# EAGLE library part MICROBUILDER_ATWINC1500_MR210PA (library Adafruit WINC1500 Breakout)
ATWINC1500_MR210PA wifi module
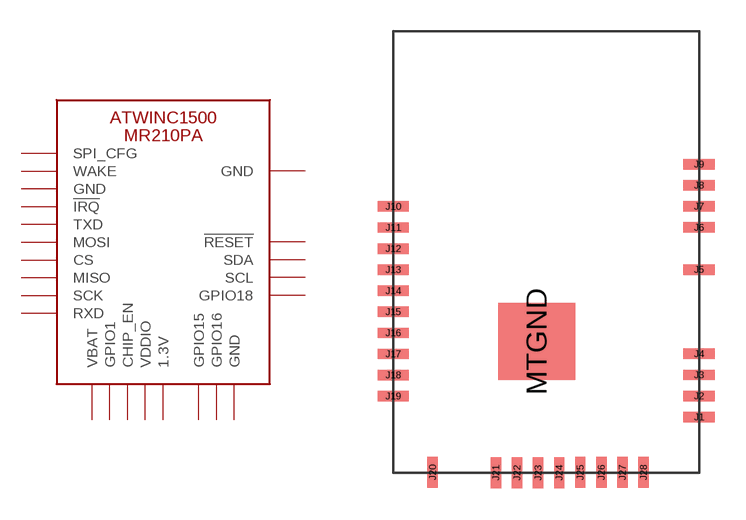
[diagram p1: symbol with the pads of MICROBUILDER_ATWINC1500_MR210PA; footprint MICROBUILDER_ATWINC1500_MR210PA]

Designator prefix X

## MICROBUILDER_ATWINC1500_MR210PA  [MICROBUILDER_ATWINC1500_MR210PA]
J1  GPIO18
J2  SCL
J3  SDA
J4  !RESET  in
J9  GND
J10  SPI_CFG  in
J11  WAKE  in
J12  GND  pwr
J13  !IRQ  out
J14  TXD  out
J15  MOSI  in
J16  CS  in
J17  MISO  out
J18  SCK  in
J19  RXD  in
J20  VBAT  pwr
J21  GPIO1
J22  CHIP_EN  in
J23  VDDIO  pwr
J24  1.3V  pas
J26  GPIO15
J27  GPIO16
J28  GND  pwr
MTGND  GND  pwr

## Footprint MICROBUILDER_ATWINC1500_MR210PA (pad centres in mm)
smd 1.5 x 0.5: J1 7.146,-4.973; J2 7.146,-3.957; J3 7.146,-2.941; J4 7.146,-1.925; J5 7.146,2.139; J6 7.146,4.171; J7 7.146,5.187; J8 7.146,6.203; J9 7.146,7.219; J10 -7.584,5.181; J11 -7.584,4.165; J12 -7.584,3.149; J13 -7.584,2.133; J14 -7.584,1.117; J15 -7.584,0.101; J16 -7.584,-0.915; J17 -7.584,-1.931; J18 -7.584,-2.947; J19 -7.584,-3.963
smd 0.5 x 1.5: J20 -5.684,-7.643; J21 -2.636,-7.663; J22 -1.62,-7.663; J23 -0.604,-7.663; J24 0.412,-7.663; J25 1.428,-7.643; J26 2.444,-7.643; J27 3.46,-7.643; J28 4.476,-7.643
smd 3.7 x 3.7: MTGND -0.666,-1.331